# Altium schematic symbol library SCH - POWER - SWITCHMODE - ANALOG LT1613CS5.SchLib: 1 symbol
Pins are listed as number, name and electrical type; pins without a type are passive.

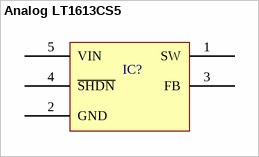
[diagram p0: symbol Analog LT1613CS5]

## Analog LT1613CS5
designator IC?
pins: 1 SW, 2 GND, 3 FB, 4 ~{SHDN}, 5 VIN